# Altium footprint library 4-C-Tan+SMT.PcbLib: 75 footprints (part 2 of 5)
Each footprint in its own frame and in the unit in brackets; x right, y up, seen from the top. Pads: shape width x height; smd on the part's side, far side on the other; paste and mask are expansions set on the pad; w line width, h text height; cw(c..) or ccw(c..) is an arc to the next point about the centre after c.
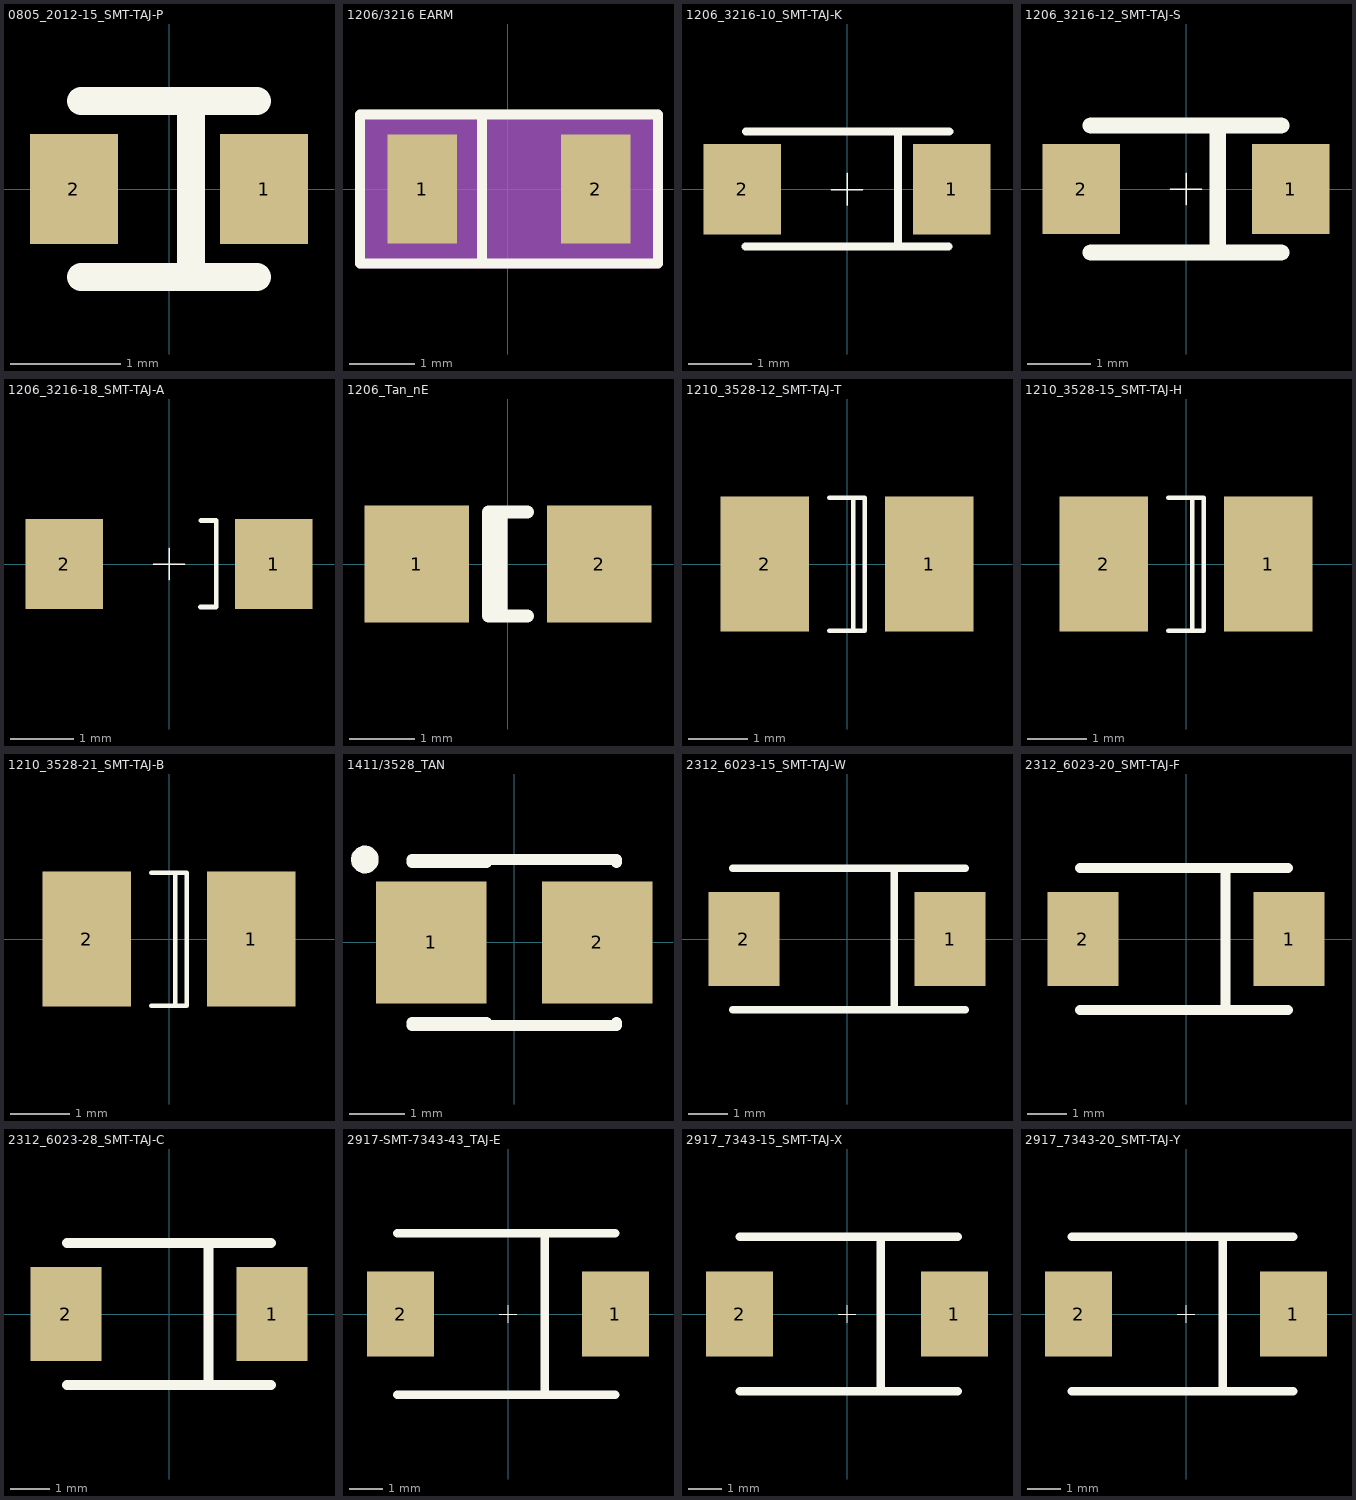
[diagram p1: the footprints below, top view; thin cyan lines are the x and y axes]

## 0805_2012-15_SMT-TAJ-P [mm]
pads (2):
  rect 0.8x1 smd mask+0.051: 1(0.864,0) 2(-0.864,0)
Top Overlay:
  lines w0.254: -0.8,-0.8 0.8,-0.8 ; -0.8,0.8 0.8,0.8 ; 0.2,-0.8 0.2,0.8
3D body "0805_smt-taj-p.stp": height 1.5, standoff 0, extent -1.025,-0.67 1.025,0.68
3D body "p100-080.stp": height 0.02, standoff 0, extent 0.5,-0.5 1.3,0.5
3D body "p100-080.stp": height 0.02, standoff 0, extent -1.3,-0.5 -0.5,0.5

## 1206/3216 EARM [mil]
pads (2):
  rect 42x66 smd: 1(-51.85,0) 2(53.15,0)
Top Overlay:
  lines w5.98: -15.75,-43.31 -15.75,43.31
  lines w6: -89.35,-45 -89.35,45 15.65,45 90.65,45 90.65,-45 15.65,-45 -89.35,-45
Mechanical 6:
  lines w6: -14.55,-45 -14.55,45 ; -89.35,-45 -89.35,45 15.65,45 90.65,45 90.65,-45 15.65,-45 -89.35,-45
Mechanical 16:
  region: -90.55,45 90.55,45 90.55,-45 -90.55,-45
  lines w1: -62.35,-31.5 -62.35,31.5 63.65,31.5 63.65,-31.5 -62.35,-31.5
Mechanical 18:
  text "2" at 53.15,-10 h25
  text "1" at -51.85,-10 h25
3D body "1206_smt-taj-k.stp": height 39.45, standoff 0, extent -62.6,-31.9 63.38,31.1
3D body "1206-earm.stp": height 0.04, standoff 0, extent -73.5,-33.07 -30.2,33.07
3D body "1206-earm.stp": height 0.04, standoff 0, extent 31.5,-33.07 74.8,33.07
3D body "p168-106.stp": height 0.79, standoff 0, extent 32.29,-33.07 74.02,33.08
3D body "p168-106.stp": height 0.79, standoff 0, extent -72.04,-33.07 -30.31,33.08

## 1206_3216-10_SMT-TAJ-K [mil]
pads (2):
  rect 47.99x56 smd mask+2: 1(65,0) 2(-65,0)
Top Overlay:
  lines w0.98: -9.84,-0.12 9.84,-0.12 ; 0.12,-9.84 0.12,9.84
  lines w5: -62.99,-35.43 62.99,-35.43 ; -62.6,35.94 63.39,35.94 ; 31.5,-35.43 31.5,35.43
3D body "1206_smt-taj-k.stp": height 39.45, standoff 0, extent -62.87,-31.49 63.11,31.5
3D body "p142-122.stp": height 0.79, standoff 0, extent -90.94,-27.95 -42.91,27.96
3D body "p142-122.stp": height 0.79, standoff 0, extent 42.92,-27.95 90.95,27.96

## 1206_3216-12_SMT-TAJ-S [mil]
pads (2):
  rect 47.99x56 smd mask+2: 1(65,0) 2(-65,0)
Top Overlay:
  lines w0.98: -9.84,-0.12 9.84,-0.12 ; 0.12,-9.84 0.12,9.84
  lines w10: -59.06,-39.37 59.06,-39.37 ; -59.06,39.37 59.06,39.37 ; 19.68,-39.37 19.68,35.43
3D body "1206_smt-taj-s.stp": height 47.32, standoff 0, extent -62.99,-31.5 62.99,31.5
3D body "p142-122.stp": height 0.79, standoff 0, extent -90.94,-27.95 -42.9,27.96
3D body "p142-122.stp": height 0.79, standoff 0, extent 42.92,-27.95 90.95,27.96

## 1206_3216-18_SMT-TAJ-A [mil] "Metric 3216-18"
pads (2):
  rect 47.99x56 smd mask+2: 1(65,0) 2(-65,0)
Top Overlay:
  lines w0.98: -9.84,-0.12 9.84,-0.12 ; 0.12,-9.84 0.12,9.84
  lines w3: 19.52,-26.7 29.34,-26.7 29.34,27 19.73,27
3D body "1206_smt-taj-A.stp": height 63.07, standoff 0, extent -62.99,-31.5 62.99,31.5
3D body "p142-122.stp": height 0.79, standoff 0, extent 42.92,-27.95 90.95,27.96
3D body "p142-122.stp": height 0.79, standoff 0, extent -90.94,-27.95 -42.91,27.96

## 1206_Tan_nE [mm]
height 1.45
pads (2):
  rect 1.6x1.8 smd: 1(-1.4,0)
  rect 1.6x1.8 smd mask+0.07: 2(1.4,0)
Top Overlay:
  lines w0.2: -0.11,-0.8 -0.11,0.8 ; 0.3,-0.8 -0.3,-0.8 -0.3,0.8 0.3,0.8
3D body "1206_smt-taj-s.stp": height 1.2, standoff 0, extent -1.6,-0.8 1.6,0.8
3D body "1_6-1_8.stp": height 0.02, standoff 0, extent 0.6,-0.9 2.2,0.9
3D body "1_6-1_8.stp": height 0.02, standoff 0, extent -2.2,-0.9 -0.6,0.9

## 1210_3528-12_SMT-TAJ-T [mm]
pads (2):
  rect 1.5x2.3 smd mask+0.051: 1(1.4,0) 2(-1.4,0)
Top Overlay:
  lines w0.076: -0.3,-1.131 0.3,-1.131 0.3,1.13 -0.3,1.13 ; 0.11,-1.121 0.11,1.125
3D body "1210_smt-taj-t.stp": height 1.9, standoff 0, extent -1.75,-1.4 1.75,1.4
3D body "p230-150.stp": height 0.02, standoff 0, extent -2.15,-1.15 -0.65,1.15
3D body "p230-150.stp": height 0.02, standoff 0, extent 0.65,-1.15 2.15,1.15

## 1210_3528-15_SMT-TAJ-H [mm]
pads (2):
  rect 1.5x2.3 smd mask+0.051: 1(1.4,0) 2(-1.4,0)
Top Overlay:
  lines w0.076: -0.3,-1.131 0.3,-1.131 0.3,1.13 -0.3,1.13 ; 0.11,-1.121 0.11,1.125
3D body "1210_smt-taj-h.stp": height 1.5, standoff 0, extent -1.75,-1.4 1.75,1.4
3D body "p230-150.stp": height 0.02, standoff 0, extent 0.65,-1.15 2.15,1.15
3D body "p230-150.stp": height 0.02, standoff 0, extent -2.15,-1.15 -0.65,1.15

## 1210_3528-21_SMT-TAJ-B [mm] "Metric 3528-21"
pads (2):
  rect 1.5x2.3 smd mask+0.051: 1(1.4,0) 2(-1.4,0)
Top Overlay:
  lines w0.076: -0.3,-1.131 0.3,-1.131 0.3,1.13 -0.3,1.13 ; 0.11,-1.121 0.11,1.125
3D body "p230-150.stp": height 0.02, standoff 0, extent -2.15,-1.15 -0.65,1.15
3D body "p230-150.stp": height 0.02, standoff 0, extent 0.65,-1.15 2.15,1.15
3D body "1210_smt-taj-b.stp": height 1.9, standoff 0, extent -1.75,-1.41 1.75,1.39

## 1411/3528_TAN [mm]
pads (2):
  rect 2x2.2 smd mask+0.07: 1(-1.5,0)
  rect 2x2.2 smd: 2(1.5,0)
Top Overlay:
  circle w0.25: c-2.7,1.5 r0.125
  lines w0.2: -1.85,-1.5 1.85,-1.5 1.85,-1.45 ; -1.85,-1.45 -0.5,-1.45 ; -1.85,1.45 -0.5,1.45 ; -1.85,1.5 1.85,1.5 1.85,1.45
3D body "tpb_3528.stp": height 1.81, standoff 0, extent -1.739,-1.4 1.739,1.4
3D body "1_9-2_3.stp": height 0.02, standoff 0, extent 0.55,-1.15 2.45,1.15
3D body "1_9-2_3.stp": height 0.02, standoff 0, extent -2.45,-1.15 -0.55,1.15

## 2312_6023-15_SMT-TAJ-W [mm]
height 1.45
pads (2):
  rect 1.8x2.388 smd mask+0.051: 1(2.621,0) 2(-2.621,0)
Top Overlay:
  lines w0.2: -2.9,-1.8 3,-1.8 ; -2.9,1.8 3,1.8 ; 1.2,-1.8 1.2,1.8
3D body "2312-6032pad.stp": height 0, standoff 0, extent 1.7,-1.2 3.5,1.2
3D body "2312-6032pad.stp": height 0, standoff 0, extent -3.5,-1.2 -1.7,1.2
3D body "2312_smt-taj-w.stp": height 1.52, standoff 0, extent -3.05,-1.6 3.05,1.6

## 2312_6023-20_SMT-TAJ-F [mm]
pads (2):
  rect 1.8x2.388 smd mask+0.051: 1(2.621,0) 2(-2.621,0)
Top Overlay:
  lines w0.254: -2.7,-1.8 2.6,-1.8 ; -2.7,1.8 2.6,1.8 ; 1,-1.8 1,1.7
3D body "2312-6032pad.stp": height 0, standoff 0, extent 1.7,-1.2 3.5,1.2
3D body "2312-6032pad.stp": height 0, standoff 0, extent -3.5,-1.2 -1.7,1.2
3D body "2312_smt-taj-f.stp": height 2, standoff 0, extent -3.05,-1.61 3.05,1.59

## 2312_6023-28_SMT-TAJ-C [mm] "Metric 6023-28"
pads (2):
  rect 1.8x2.388 smd mask+0.051: 1(2.621,0) 2(-2.621,0)
Top Overlay:
  lines w0.254: -2.6,-1.8 2.6,-1.8 ; -2.6,1.8 2.6,1.8 ; 1,-1.8 1,1.7
3D body "2312-6032pad.stp": height 0, standoff 0, extent 1.7,-1.2 3.5,1.2
3D body "2312-6032pad.stp": height 0, standoff 0, extent -3.5,-1.2 -1.7,1.2
3D body "2312_smt-taj-c.stp": height 2.6, standoff 0, extent -3.05,-1.59 3.05,1.61

## 2917-SMT-7343-43_TAJ-E [mm] "Metric 7343-43"
pads (2):
  rect 2x2.54 smd mask+0.051: 1(3.2,0) 2(-3.2,0)
Top Overlay:
  lines w0.005: -0.254,0 0.254,0 ; 0,-0.257 0,0.254
  lines w0.254: -3.3,-2.4 3.2,-2.4 ; -3.3,2.4 3.2,2.4 ; 1,-2.4 ccw(c1,-2.3) 1.1,-2.3 1.1,2.4
3D body "2917_smt-taj-e.stp": height 4.12, standoff 0, extent -3.67,-2.15 3.63,2.15
3D body "p254-200.stp": height 0.02, standoff 0, extent -4.2,-1.27 -2.2,1.27
3D body "p254-200.stp": height 0.02, standoff 0, extent 2.2,-1.27 4.2,1.27

## 2917_7343-15_SMT-TAJ-X [mm]
pads (2):
  rect 2x2.54 smd mask+0.051: 1(3.2,0) 2(-3.2,0)
Top Overlay:
  lines w0.005: -0.254,0 0.254,0 ; 0,-0.257 0,0.254
  lines w0.254: -3.2,-2.3 3.3,-2.3 ; -3.2,2.3 3.3,2.3 ; 1,-2.3 1,2.3
3D body "2917_smt-taj-x.stp": height 1.52, standoff 0, extent -3.63,-2.15 3.67,2.15
3D body "p254-200.stp": height 0.02, standoff 0, extent 2.2,-1.27 4.2,1.27
3D body "p254-200.stp": height 0.02, standoff 0, extent -4.2,-1.27 -2.2,1.27

## 2917_7343-20_SMT-TAJ-Y [mm]
pads (2):
  rect 2x2.54 smd mask+0.051: 1(3.2,0) 2(-3.2,0)
Top Overlay:
  lines w0.005: -0.254,0 0.254,0 ; 0,-0.257 0,0.254
  lines w0.254: -3.4,-2.3 3.2,-2.3 ; -3.4,2.3 3.2,2.3 ; 1,2.3 cw(c1,2.2) 1.1,2.2 1.1,-2.3
3D body "2917_smt-taj-y.stp": height 2.03, standoff 0, extent -3.66,-2.16 3.64,2.14
3D body "p254-200.stp": height 0.02, standoff 0, extent -4.2,-1.27 -2.2,1.27
3D body "p254-200.stp": height 0.02, standoff 0, extent 2.2,-1.27 4.2,1.27